# Altium footprint library SOD80_MLL34.PcbLib: 1 footprints
Each footprint in its own frame and in the unit in brackets; x right, y up, seen from the top. Pads: shape width x height; smd on the part's side, far side on the other; paste and mask are expansions set on the pad; w line width, h text height; cw(c..) or ccw(c..) is an arc to the next point about the centre after c.
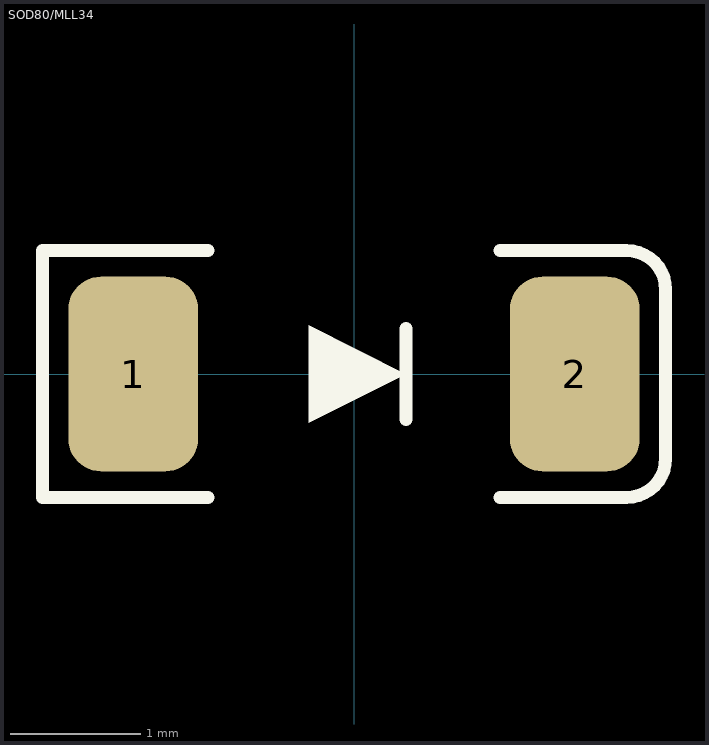
[diagram p0: the footprint, top view; thin cyan lines are the x and y axes]

## SOD80/MLL34 [mm]
height 1.5
pads (2):
  rrect50% 1x1.5 smd: 1(-1.7,0) 2(1.7,0)
Top Overlay:
  region: -0.35,0.375 0.4,0 -0.35,-0.375
  lines w0.1: -1.125,-0.95 -2.4,-0.95 -2.4,0.95 -1.125,0.95 ; 0.4,-0.35 0.4,0.35 ; 1.125,-0.95 2.1,-0.95 ccw(c2.1,-0.65) 2.4,-0.65 2.4,0.65 ccw(c2.1,0.65) 2.1,0.95 1.125,0.95
3D body "MiniMelf (3515) SOD80-LL34-DO213AB.STEP": height 1.5, standoff 0, extent -1.75,-0.75 1.75,0.75